# Altium integrated library TI Power Management Step-Up Regulator.IntLib: 226 symbols (part 8 of 11)
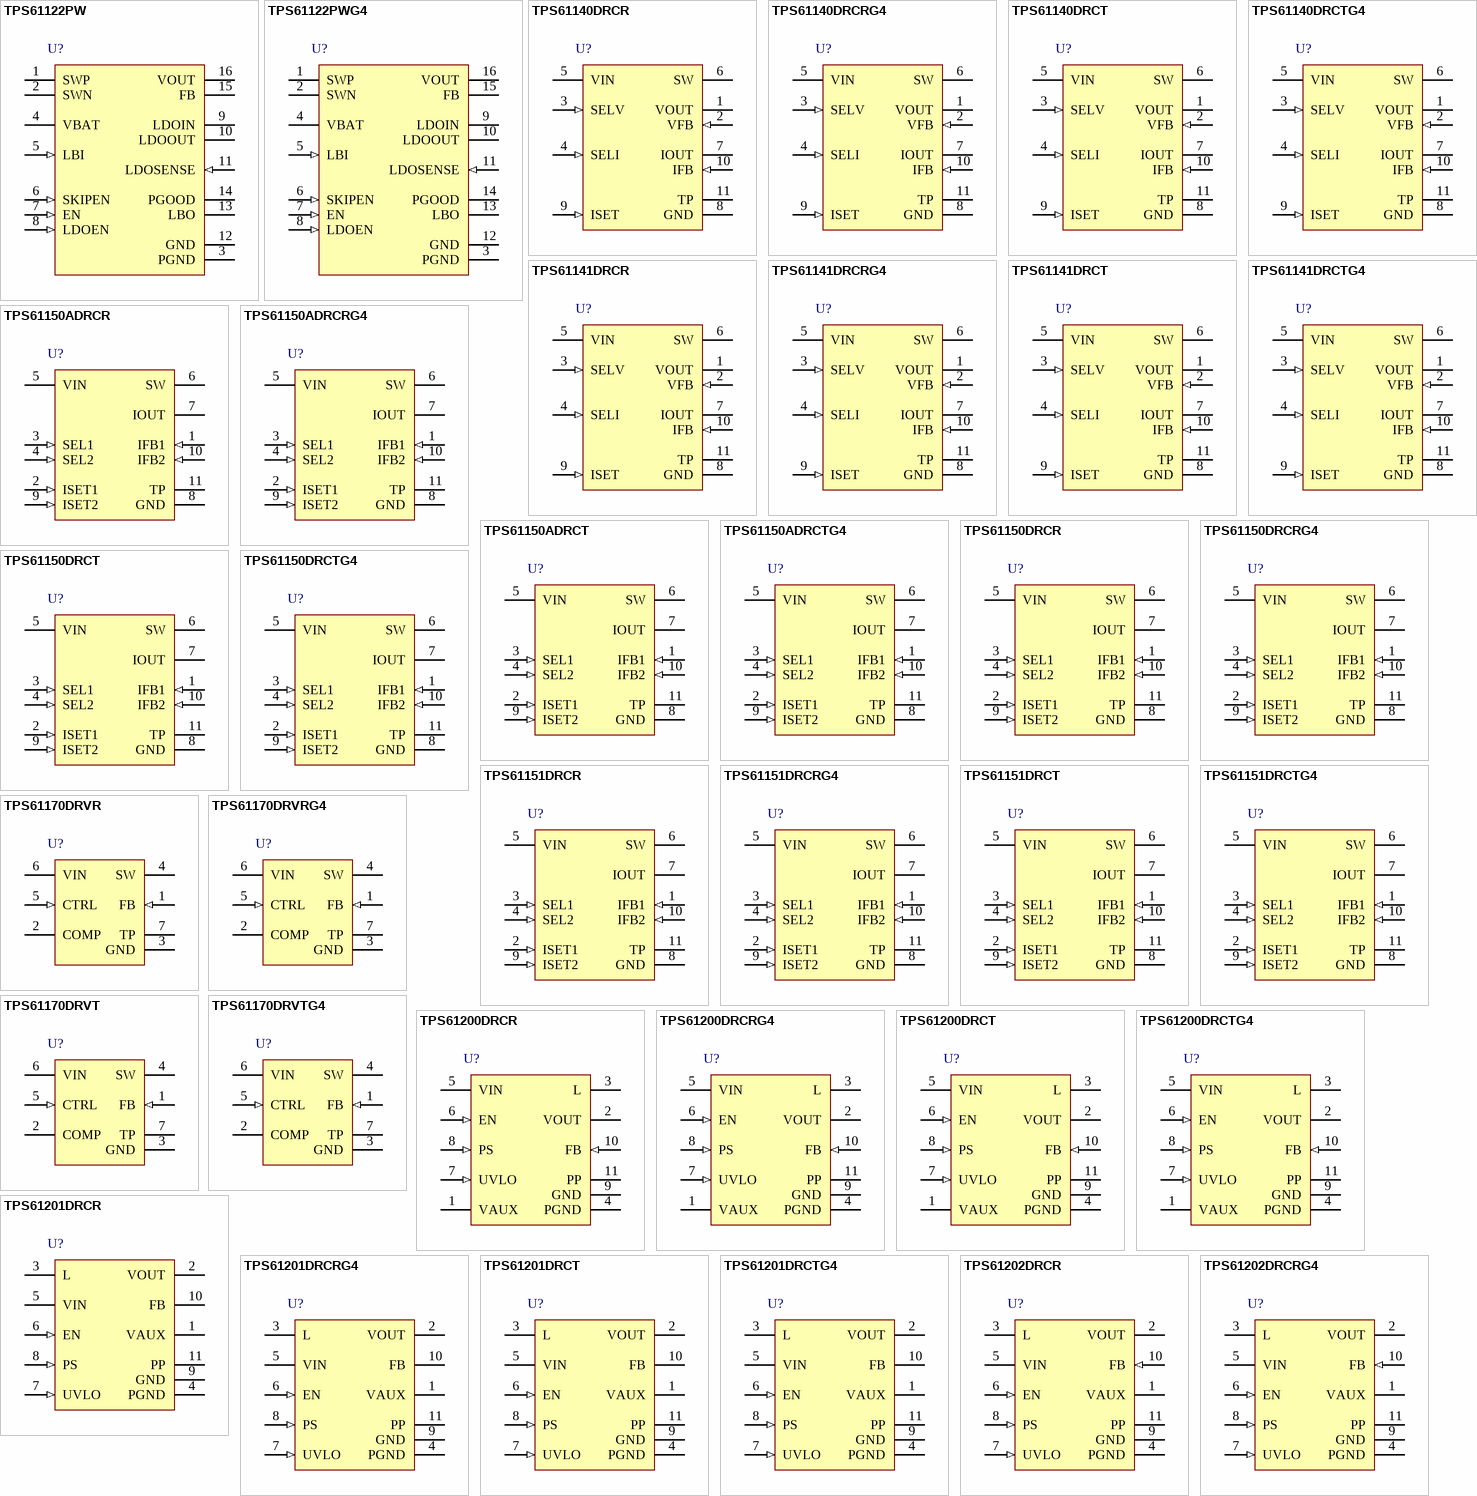
[diagram p13: symbols TPS61122PW to TPS61202DRCRG4]

## TPS61141DRCRG4
designator U?
Boost Voltage Converter with 3 to 6 V Input and 2.5 to 27 V Output, -40 to 85 degC, 10-Pin SON (DRC), Green (RoHS & no Sb/Br); Manufacturer: Texas Instruments; PartNumber: TPS61141DRCRG4; Regulated Outputs(#): 2; SubFamily: Step-Up Regulator; Switching Frequency(Max)(kHz): 1200; Synchronous Rectification: TRUE; Vin(Max)(V): 6; Vin(Min)(V): 3; Vout(Max)(V): 27; Vout(Min)(V): 2.5; DatasheetVersion: SLVS624B; PackageVersion: revL, Sep-2011; PackageReference: DRC10-2400X1650TP; PackageDescription: 10-Pin Plastic Small Outline No-Lead, 3 x 3 x 1 mm Body, 0.5 mm Pitch, Exposed Pad; Supplier 1: Digi-Key; Supplier Part Number 1: TPS61141DRCRG4-ND; Supplier 2: Newark; Supplier Part Number 2: 81K4157; Supplier 3: Mouser; Supplier Part Number 3: 595-TPS61141DRCRG4; Eco-Plan: Green (RoHS & no Sb/Br); Topology: Boost; Mounting Technology: Surface Mount; ComponentLink1Description: Datasheet; ComponentLink1URL: http://www.ti.com/general/docs/lit/getliterature.tsp?genericPartNumber=TPS61141&fileType=pdf; ComponentLink2Description: Package Specification; ComponentLink2URL: http://www.ti.com/litv/pdf/mpds117k
footprint DRC10-2400X1650TP (SON, 10-Leads, Body 3x3mm, Pitch 0.5mm, Thermal Pad 2.4x1.65mm, TI Recommended)
pins: 1 VOUT (power) "The output of the voltage regulator. There is a low dropout linear regulator (LDO) between the Iout and Vout pins which regulates the Vout voltage. Turning off the LDO disconnects the Vout from Iout.", 2 VFB (in) "The voltage feedback pin for Vout regulation. It is regulated to an internal reference voltage. An external voltage divider connected to this pin programs the output voltage.", 3 SELV (in) "Mode selection pins.", 4 SELI (in) "Mode selection pins.", 5 VIN (power) "The input pin to the IC. It provides the current to the boost regulator output, and also powers the IC circuit. When the Vin voltage is below the undervoltage lockout threshold, the IC turns off and disables outputs.", 6 SW (power) "This is the switching node of the IC where the PWM switching Is created.", 7 IOUT (power) "The output of the constant current supply. It is directly connected to the boost regulator output.", 8 GND (power) "The ground of the IC. Connect the input and output capacitors very close to this pin.", 9 ISET (in) "The current output programming pin. The resistor connected to the pin programs the regulated current of the Iout pin.", 10 IFB (in) "The return path for the Iout regulation. The current regulator is connected to this pin, and it can be disabled by opening the current path.", 11 TP (power) "The thermal pad should be soldered to the analog ground. If possible, use thermal via to connect to ground plane for ideal power dissipation."

## TPS61141DRCT
designator U?
Boost Voltage Converter with 3 to 6 V Input and 2.5 to 27 V Output, -40 to 85 degC, 10-Pin SON (DRC), Green (RoHS & no Sb/Br); Manufacturer: Texas Instruments; PartNumber: TPS61141DRCT; Regulated Outputs(#): 2; SubFamily: Step-Up Regulator; Switching Frequency(Max)(kHz): 1200; Synchronous Rectification: TRUE; Vin(Max)(V): 6; Vin(Min)(V): 3; Vout(Max)(V): 27; Vout(Min)(V): 2.5; DatasheetVersion: SLVS624B; PackageVersion: revL, Sep-2011; PackageReference: DRC10-2400X1650TP; PackageDescription: 10-Pin Plastic Small Outline No-Lead, 3 x 3 x 1 mm Body, 0.5 mm Pitch, Exposed Pad; Supplier 1: Digi-Key; Supplier Part Number 1: TPS61141DRCT-ND; Supplier 2: Newark; Supplier Part Number 2: 80K3414; Supplier 3: Mouser; Supplier Part Number 3: 595-TPS61141DRCT; Eco-Plan: Green (RoHS & no Sb/Br); Topology: Boost; Mounting Technology: Surface Mount; ComponentLink1Description: Datasheet; ComponentLink1URL: http://www.ti.com/general/docs/lit/getliterature.tsp?genericPartNumber=TPS61141&fileType=pdf; ComponentLink2Description: Package Specification; ComponentLink2URL: http://www.ti.com/litv/pdf/mpds117k
footprint DRC10-2400X1650TP (SON, 10-Leads, Body 3x3mm, Pitch 0.5mm, Thermal Pad 2.4x1.65mm, TI Recommended)
pins: 1 VOUT (power) "The output of the voltage regulator. There is a low dropout linear regulator (LDO) between the Iout and Vout pins which regulates the Vout voltage. Turning off the LDO disconnects the Vout from Iout.", 2 VFB (in) "The voltage feedback pin for Vout regulation. It is regulated to an internal reference voltage. An external voltage divider connected to this pin programs the output voltage.", 3 SELV (in) "Mode selection pins.", 4 SELI (in) "Mode selection pins.", 5 VIN (power) "The input pin to the IC. It provides the current to the boost regulator output, and also powers the IC circuit. When the Vin voltage is below the undervoltage lockout threshold, the IC turns off and disables outputs.", 6 SW (power) "This is the switching node of the IC where the PWM switching Is created.", 7 IOUT (power) "The output of the constant current supply. It is directly connected to the boost regulator output.", 8 GND (power) "The ground of the IC. Connect the input and output capacitors very close to this pin.", 9 ISET (in) "The current output programming pin. The resistor connected to the pin programs the regulated current of the Iout pin.", 10 IFB (in) "The return path for the Iout regulation. The current regulator is connected to this pin, and it can be disabled by opening the current path.", 11 TP (power) "The thermal pad should be soldered to the analog ground. If possible, use thermal via to connect to ground plane for ideal power dissipation."

## TPS61141DRCTG4
designator U?
Boost Voltage Converter with 3 to 6 V Input and 2.5 to 27 V Output, -40 to 85 degC, 10-Pin SON (DRC), Green (RoHS & no Sb/Br); Manufacturer: Texas Instruments; PartNumber: TPS61141DRCTG4; Regulated Outputs(#): 2; SubFamily: Step-Up Regulator; Switching Frequency(Max)(kHz): 1200; Synchronous Rectification: TRUE; Vin(Max)(V): 6; Vin(Min)(V): 3; Vout(Max)(V): 27; Vout(Min)(V): 2.5; DatasheetVersion: SLVS624B; PackageVersion: revL, Sep-2011; PackageReference: DRC10-2400X1650TP; PackageDescription: 10-Pin Plastic Small Outline No-Lead, 3 x 3 x 1 mm Body, 0.5 mm Pitch, Exposed Pad; Supplier 1: Digi-Key; Supplier Part Number 1: TPS61141DRCTG4-ND; Supplier 2: Newark; Supplier Part Number 2: 81K4158; Supplier 3: Mouser; Supplier Part Number 3: 595-TPS61141DRCTG4; Eco-Plan: Green (RoHS & no Sb/Br); Topology: Boost; Mounting Technology: Surface Mount; ComponentLink1Description: Datasheet; ComponentLink1URL: http://www.ti.com/general/docs/lit/getliterature.tsp?genericPartNumber=TPS61141&fileType=pdf; ComponentLink2Description: Package Specification; ComponentLink2URL: http://www.ti.com/litv/pdf/mpds117k
footprint DRC10-2400X1650TP (SON, 10-Leads, Body 3x3mm, Pitch 0.5mm, Thermal Pad 2.4x1.65mm, TI Recommended)
pins: 1 VOUT (power) "The output of the voltage regulator. There is a low dropout linear regulator (LDO) between the Iout and Vout pins which regulates the Vout voltage. Turning off the LDO disconnects the Vout from Iout.", 2 VFB (in) "The voltage feedback pin for Vout regulation. It is regulated to an internal reference voltage. An external voltage divider connected to this pin programs the output voltage.", 3 SELV (in) "Mode selection pins.", 4 SELI (in) "Mode selection pins.", 5 VIN (power) "The input pin to the IC. It provides the current to the boost regulator output, and also powers the IC circuit. When the Vin voltage is below the undervoltage lockout threshold, the IC turns off and disables outputs.", 6 SW (power) "This is the switching node of the IC where the PWM switching Is created.", 7 IOUT (power) "The output of the constant current supply. It is directly connected to the boost regulator output.", 8 GND (power) "The ground of the IC. Connect the input and output capacitors very close to this pin.", 9 ISET (in) "The current output programming pin. The resistor connected to the pin programs the regulated current of the Iout pin.", 10 IFB (in) "The return path for the Iout regulation. The current regulator is connected to this pin, and it can be disabled by opening the current path.", 11 TP (power) "The thermal pad should be soldered to the analog ground. If possible, use thermal via to connect to ground plane for ideal power dissipation."

## TPS61150ADRCR
designator U?
Boost Voltage Converter with 2.5 to 6 V Input and 2.5 to 27 V Output, -40 to 85 degC, 10-Pin SON (DRC), Green (RoHS & no Sb/Br); Manufacturer: Texas Instruments; PartNumber: TPS61150ADRCR; Regulated Outputs(#): 2; SubFamily: Step-Up Regulator; Switching Frequency(Max)(kHz): 1200; Synchronous Rectification: TRUE; Vin(Max)(V): 6; Vin(Min)(V): 2.5; Vout(Max)(V): 27; DatasheetVersion: SLVS706; PackageVersion: revL, Sep-2011; PackageReference: DRC10-2400X1650TP; PackageDescription: 10-Pin Plastic Small Outline No-Lead, 3 x 3 x 1 mm Body, 0.5 mm Pitch, Exposed Pad; Supplier 1: Digi-Key; Supplier Part Number 1: 296-21273-2-ND; Supplier 2: Digi-Key; Supplier Part Number 2: 296-21273-1-ND; Supplier 3: Digi-Key; Supplier Part Number 3: 296-21273-6-ND; Supplier 4: Newark; Supplier Part Number 4: 22M1821; Supplier 5: Mouser; Supplier Part Number 5: 595-TPS61150ADRCR; Eco-Plan: Green (RoHS & no Sb/Br); Topology: Boost; Vout(Min)(V): 2.5; Mounting Technology: Surface Mount; ComponentLink1Description: Datasheet; ComponentLink1URL: http://www.ti.com/general/docs/lit/getliterature.tsp?genericPartNumber=TPS61150A&fileType=pdf; ComponentLink2Description: Package Specification; ComponentLink2URL: http://www.ti.com/litv/pdf/mpds117k
footprint DRC10-2400X1650TP (SON, 10-Leads, Body 3x3mm, Pitch 0.5mm, Thermal Pad 2.4x1.65mm, TI Recommended)
pins: 1 IFB1 (in) "Return path for the IOUT regulation. The current regulator is connected to this pin, and it can be disabled to open the current path.", 2 ISET1 (in) "Output current programming. The resistor connected to the pin programs the corresponding output current", 3 SEL1 (in) "Mode selection. See Table 1 for details", 4 SEL2 (in) "Mode selection. See Table 1 for details", 5 VIN (power) "Input pin. VIN provides the current to the boost power stage, and also powers the IC circuit. When VIN is below the undervoltage lockout threshold, the IC turns off and disables outputs; thereby disconnecting the WLEDs from (See Datasheet)", 6 SW (power) "Switching node of the IC.", 7 IOUT (power) "Constant current supply output. IOUT is directly connected to the boost converter output.", 8 GND (power) "Ground. Connect the input and output capacitors as close as possible to this pin.", 9 ISET2 (in) "Output current programming. The resistor connected to the pin programs the corresponding output current", 10 IFB2 (in) "Return path for the IOUT regulation. The current regulator is connected to this pin, and it can be disabled to open the current path.", 11 TP (power) "The thermal pad should be soldered to the analog ground. If possible, use the thermal pad to connect to ground plane for ideal power dissipation."

## TPS61150ADRCRG4
designator U?
Boost Voltage Converter with 2.5 to 6 V Input and 2.5 to 27 V Output, -40 to 85 degC, 10-Pin SON (DRC), Green (RoHS & no Sb/Br); Manufacturer: Texas Instruments; PartNumber: TPS61150ADRCRG4; Regulated Outputs(#): 2; SubFamily: Step-Up Regulator; Switching Frequency(Max)(kHz): 1200; Synchronous Rectification: TRUE; Vin(Max)(V): 6; Vin(Min)(V): 2.5; Vout(Max)(V): 27; DatasheetVersion: SLVS706; PackageVersion: revL, Sep-2011; PackageReference: DRC10-2400X1650TP; PackageDescription: 10-Pin Plastic Small Outline No-Lead, 3 x 3 x 1 mm Body, 0.5 mm Pitch, Exposed Pad; Supplier 1: Digi-Key; Supplier Part Number 1: TPS61150ADRCRG4-ND; Supplier 2: Newark; Supplier Part Number 2: 20M7045; Supplier 3: Mouser; Supplier Part Number 3: 595-TPS61150ADRCRG4; Eco-Plan: Green (RoHS & no Sb/Br); Topology: Boost; Vout(Min)(V): 2.5; Mounting Technology: Surface Mount; ComponentLink1Description: Datasheet; ComponentLink1URL: http://www.ti.com/general/docs/lit/getliterature.tsp?genericPartNumber=TPS61150A&fileType=pdf; ComponentLink2Description: Package Specification; ComponentLink2URL: http://www.ti.com/litv/pdf/mpds117k
footprint DRC10-2400X1650TP (SON, 10-Leads, Body 3x3mm, Pitch 0.5mm, Thermal Pad 2.4x1.65mm, TI Recommended)
pins: 1 IFB1 (in) "Return path for the IOUT regulation. The current regulator is connected to this pin, and it can be disabled to open the current path.", 2 ISET1 (in) "Output current programming. The resistor connected to the pin programs the corresponding output current", 3 SEL1 (in) "Mode selection. See Table 1 for details", 4 SEL2 (in) "Mode selection. See Table 1 for details", 5 VIN (power) "Input pin. VIN provides the current to the boost power stage, and also powers the IC circuit. When VIN is below the undervoltage lockout threshold, the IC turns off and disables outputs; thereby disconnecting the WLEDs from (See Datasheet)", 6 SW (power) "Switching node of the IC.", 7 IOUT (power) "Constant current supply output. IOUT is directly connected to the boost converter output.", 8 GND (power) "Ground. Connect the input and output capacitors as close as possible to this pin.", 9 ISET2 (in) "Output current programming. The resistor connected to the pin programs the corresponding output current", 10 IFB2 (in) "Return path for the IOUT regulation. The current regulator is connected to this pin, and it can be disabled to open the current path.", 11 TP (power) "The thermal pad should be soldered to the analog ground. If possible, use the thermal pad to connect to ground plane for ideal power dissipation."

## TPS61150ADRCT
designator U?
Boost Voltage Converter with 2.5 to 6 V Input and 2.5 to 27 V Output, -40 to 85 degC, 10-Pin SON (DRC), Green (RoHS & no Sb/Br); Manufacturer: Texas Instruments; PartNumber: TPS61150ADRCT; Regulated Outputs(#): 2; SubFamily: Step-Up Regulator; Switching Frequency(Max)(kHz): 1200; Synchronous Rectification: TRUE; Vin(Max)(V): 6; Vin(Min)(V): 2.5; Vout(Max)(V): 27; DatasheetVersion: SLVS706; PackageVersion: revL, Sep-2011; PackageReference: DRC10-2400X1650TP; PackageDescription: 10-Pin Plastic Small Outline No-Lead, 3 x 3 x 1 mm Body, 0.5 mm Pitch, Exposed Pad; Supplier 1: Digi-Key; Supplier Part Number 1: TPS61150ADRCT-ND; Supplier 2: Farnell; Supplier Part Number 2: 1647812; Supplier 3: Newark; Supplier Part Number 3: 22M1822; Supplier 4: Mouser; Supplier Part Number 4: 595-TPS61150ADRCT; Eco-Plan: Green (RoHS & no Sb/Br); Topology: Boost; Vout(Min)(V): 2.5; Mounting Technology: Surface Mount; ComponentLink1Description: Datasheet; ComponentLink1URL: http://www.ti.com/general/docs/lit/getliterature.tsp?genericPartNumber=TPS61150A&fileType=pdf; ComponentLink2Description: Package Specification; ComponentLink2URL: http://www.ti.com/litv/pdf/mpds117k
footprint DRC10-2400X1650TP (SON, 10-Leads, Body 3x3mm, Pitch 0.5mm, Thermal Pad 2.4x1.65mm, TI Recommended)
pins: 1 IFB1 (in) "Return path for the IOUT regulation. The current regulator is connected to this pin, and it can be disabled to open the current path.", 2 ISET1 (in) "Output current programming. The resistor connected to the pin programs the corresponding output current", 3 SEL1 (in) "Mode selection. See Table 1 for details", 4 SEL2 (in) "Mode selection. See Table 1 for details", 5 VIN (power) "Input pin. VIN provides the current to the boost power stage, and also powers the IC circuit. When VIN is below the undervoltage lockout threshold, the IC turns off and disables outputs; thereby disconnecting the WLEDs from (See Datasheet)", 6 SW (power) "Switching node of the IC.", 7 IOUT (power) "Constant current supply output. IOUT is directly connected to the boost converter output.", 8 GND (power) "Ground. Connect the input and output capacitors as close as possible to this pin.", 9 ISET2 (in) "Output current programming. The resistor connected to the pin programs the corresponding output current", 10 IFB2 (in) "Return path for the IOUT regulation. The current regulator is connected to this pin, and it can be disabled to open the current path.", 11 TP (power) "The thermal pad should be soldered to the analog ground. If possible, use the thermal pad to connect to ground plane for ideal power dissipation."

## TPS61150ADRCTG4
designator U?
Boost Voltage Converter with 2.5 to 6 V Input and 2.5 to 27 V Output, -40 to 85 degC, 10-Pin SON (DRC), Green (RoHS & no Sb/Br); Manufacturer: Texas Instruments; PartNumber: TPS61150ADRCTG4; Regulated Outputs(#): 2; SubFamily: Step-Up Regulator; Switching Frequency(Max)(kHz): 1200; Synchronous Rectification: TRUE; Vin(Max)(V): 6; Vin(Min)(V): 2.5; Vout(Max)(V): 27; DatasheetVersion: SLVS706; PackageVersion: revL, Sep-2011; PackageReference: DRC10-2400X1650TP; PackageDescription: 10-Pin Plastic Small Outline No-Lead, 3 x 3 x 1 mm Body, 0.5 mm Pitch, Exposed Pad; Supplier 1: Digi-Key; Supplier Part Number 1: TPS61150ADRCTG4-ND; Supplier 2: Newark; Supplier Part Number 2: 20M7046; Supplier 3: Mouser; Supplier Part Number 3: 595-TPS61150ADRCTG4; Eco-Plan: Green (RoHS & no Sb/Br); Topology: Boost; Vout(Min)(V): 2.5; Mounting Technology: Surface Mount; ComponentLink1Description: Datasheet; ComponentLink1URL: http://www.ti.com/general/docs/lit/getliterature.tsp?genericPartNumber=TPS61150A&fileType=pdf; ComponentLink2Description: Package Specification; ComponentLink2URL: http://www.ti.com/litv/pdf/mpds117k
footprint DRC10-2400X1650TP (SON, 10-Leads, Body 3x3mm, Pitch 0.5mm, Thermal Pad 2.4x1.65mm, TI Recommended)
pins: 1 IFB1 (in) "Return path for the IOUT regulation. The current regulator is connected to this pin, and it can be disabled to open the current path.", 2 ISET1 (in) "Output current programming. The resistor connected to the pin programs the corresponding output current", 3 SEL1 (in) "Mode selection. See Table 1 for details", 4 SEL2 (in) "Mode selection. See Table 1 for details", 5 VIN (power) "Input pin. VIN provides the current to the boost power stage, and also powers the IC circuit. When VIN is below the undervoltage lockout threshold, the IC turns off and disables outputs; thereby disconnecting the WLEDs from (See Datasheet)", 6 SW (power) "Switching node of the IC.", 7 IOUT (power) "Constant current supply output. IOUT is directly connected to the boost converter output.", 8 GND (power) "Ground. Connect the input and output capacitors as close as possible to this pin.", 9 ISET2 (in) "Output current programming. The resistor connected to the pin programs the corresponding output current", 10 IFB2 (in) "Return path for the IOUT regulation. The current regulator is connected to this pin, and it can be disabled to open the current path.", 11 TP (power) "The thermal pad should be soldered to the analog ground. If possible, use the thermal pad to connect to ground plane for ideal power dissipation."

## TPS61150DRCR
designator U?
Boost Voltage Converter with 3 to 6 V Input and 2.5 to 27 V Output, -40 to 85 degC, 10-Pin SON (DRC), Green (RoHS & no Sb/Br); Manufacturer: Texas Instruments; PartNumber: TPS61150DRCR; Regulated Outputs(#): 2; SubFamily: Step-Up Regulator; Switching Frequency(Max)(kHz): 1200; Synchronous Rectification: TRUE; Vin(Max)(V): 6; Vin(Min)(V): 3; Vout(Max)(V): 27; Vout(Min)(V): 2.5; DatasheetVersion: SLVS625D; PackageVersion: revL, Sep-2011; PackageReference: DRC10-2400X1650TP; PackageDescription: 10-Pin Plastic Small Outline No-Lead, 3 x 3 x 1 mm Body, 0.5 mm Pitch, Exposed Pad; Supplier 1: Digi-Key; Supplier Part Number 1: 296-21161-2-ND; Supplier 2: Digi-Key; Supplier Part Number 2: 296-21161-1-ND; Supplier 3: Digi-Key; Supplier Part Number 3: 296-21161-6-ND; Supplier 4: Newark; Supplier Part Number 4: 80K6169; Supplier 5: Mouser; Supplier Part Number 5: 595-TPS61150DRCR; Eco-Plan: Green (RoHS & no Sb/Br); Topology: Boost; Mounting Technology: Surface Mount; ComponentLink1Description: Datasheet; ComponentLink1URL: http://www.ti.com/general/docs/lit/getliterature.tsp?genericPartNumber=TPS61150&fileType=pdf; ComponentLink2Description: Package Specification; ComponentLink2URL: http://www.ti.com/litv/pdf/mpds117k
footprint DRC10-2400X1650TP (SON, 10-Leads, Body 3x3mm, Pitch 0.5mm, Thermal Pad 2.4x1.65mm, TI Recommended)
pins: 1 IFB1 (in) "The return path for the Iout regulation. Current regulator is connected to this pin, and it can be disabled to open the current path.", 2 ISET1 (in) "Output current programming pin. The resistor connected to the pin programs its corresponding output current.", 3 SEL1 (in) "Mode selection pins. See Table 1 for details.", 4 SEL2 (in) "Mode selection pins. See Table 1 for details.", 5 VIN (power) "The input pin to the IC. It provides the current to the boost power stage, and also powers the IC circuit. When Vin is below the undervoltage lockout threshold, the IC turns off and disables outputs; thereby disconnecting (See Datasheet)", 6 SW (power) "This is the switching node of the IC.", 7 IOUT (power) "The output of the constant current supply. It is directly connected to the boost converter output.", 8 GND (power) "The ground of the IC. Connect the input and output capacitors very close to this pin.", 9 ISET2 (in) "Output current programming pin. The resistor connected to the pin programs its corresponding output current.", 10 IFB2 (in) "The return path for the Iout regulation. Current regulator is connected to this pin, and it can be disabled to open the current path.", 11 TP (power) "The thermal pad should be soldered to the analog ground. If possible, use thermal via to connect to ground plane for ideal power dissipation."

## TPS61150DRCRG4
designator U?
Boost Voltage Converter with 3 to 6 V Input and 2.5 to 27 V Output, -40 to 85 degC, 10-Pin SON (DRC), Green (RoHS & no Sb/Br); Manufacturer: Texas Instruments; PartNumber: TPS61150DRCRG4; Regulated Outputs(#): 2; SubFamily: Step-Up Regulator; Switching Frequency(Max)(kHz): 1200; Synchronous Rectification: TRUE; Vin(Max)(V): 6; Vin(Min)(V): 3; Vout(Max)(V): 27; Vout(Min)(V): 2.5; DatasheetVersion: SLVS625D; PackageVersion: revL, Sep-2011; PackageReference: DRC10-2400X1650TP; PackageDescription: 10-Pin Plastic Small Outline No-Lead, 3 x 3 x 1 mm Body, 0.5 mm Pitch, Exposed Pad; Supplier 1: Digi-Key; Supplier Part Number 1: TPS61150DRCRG4-ND; Supplier 2: Newark; Supplier Part Number 2: 81K4159; Supplier 3: Mouser; Supplier Part Number 3: 595-TPS61150DRCRG4; Eco-Plan: Green (RoHS & no Sb/Br); Topology: Boost; Mounting Technology: Surface Mount; ComponentLink1Description: Datasheet; ComponentLink1URL: http://www.ti.com/general/docs/lit/getliterature.tsp?genericPartNumber=TPS61150&fileType=pdf; ComponentLink2Description: Package Specification; ComponentLink2URL: http://www.ti.com/litv/pdf/mpds117k
footprint DRC10-2400X1650TP (SON, 10-Leads, Body 3x3mm, Pitch 0.5mm, Thermal Pad 2.4x1.65mm, TI Recommended)
pins: 1 IFB1 (in) "The return path for the Iout regulation. Current regulator is connected to this pin, and it can be disabled to open the current path.", 2 ISET1 (in) "Output current programming pin. The resistor connected to the pin programs its corresponding output current.", 3 SEL1 (in) "Mode selection pins. See Table 1 for details.", 4 SEL2 (in) "Mode selection pins. See Table 1 for details.", 5 VIN (power) "The input pin to the IC. It provides the current to the boost power stage, and also powers the IC circuit. When Vin is below the undervoltage lockout threshold, the IC turns off and disables outputs; thereby disconnecting (See Datasheet)", 6 SW (power) "This is the switching node of the IC.", 7 IOUT (power) "The output of the constant current supply. It is directly connected to the boost converter output.", 8 GND (power) "The ground of the IC. Connect the input and output capacitors very close to this pin.", 9 ISET2 (in) "Output current programming pin. The resistor connected to the pin programs its corresponding output current.", 10 IFB2 (in) "The return path for the Iout regulation. Current regulator is connected to this pin, and it can be disabled to open the current path.", 11 TP (power) "The thermal pad should be soldered to the analog ground. If possible, use thermal via to connect to ground plane for ideal power dissipation."

## TPS61150DRCT
designator U?
Boost Voltage Converter with 3 to 6 V Input and 2.5 to 27 V Output, 10-Pin SON (DRC), Green (RoHS & no Sb/Br); Manufacturer: Texas Instruments; PartNumber: TPS61150DRCT; Regulated Outputs(#): 2; SubFamily: Step-Up Regulator; Switching Frequency(Max)(kHz): 1200; Synchronous Rectification: TRUE; Vin(Max)(V): 6; Vin(Min)(V): 3; Vout(Max)(V): 27; Vout(Min)(V): 2.5; DatasheetVersion: SLVS625D; PackageVersion: revL, Sep-2011; PackageReference: DRC10-2400X1650TP; PackageDescription: 10-Pin Plastic Small Outline No-Lead, 3 x 3 x 1 mm Body, 0.5 mm Pitch, Exposed Pad; Supplier 1: Digi-Key; Supplier Part Number 1: TPS61150DRCT-ND; Supplier 2: Newark; Supplier Part Number 2: 80K6170; Supplier 3: Newark; Supplier Part Number 3: 99R8636; Supplier 4: Mouser; Supplier Part Number 4: 595-TPS61150DRCT; Eco-Plan: Green (RoHS & no Sb/Br); Topology: Boost; Mounting Technology: Surface Mount; ComponentLink1Description: Datasheet; ComponentLink1URL: http://www.ti.com/general/docs/lit/getliterature.tsp?genericPartNumber=TPS61150&fileType=pdf; ComponentLink2Description: Package Specification; ComponentLink2URL: http://www.ti.com/litv/pdf/mpds117k
footprint DRC10-2400X1650TP (SON, 10-Leads, Body 3x3mm, Pitch 0.5mm, Thermal Pad 2.4x1.65mm, TI Recommended)
pins: 1 IFB1 (in) "The return path for the Iout regulation. Current regulator is connected to this pin, and it can be disabled to open the current path.", 2 ISET1 (in) "Output current programming pin. The resistor connected to the pin programs its corresponding output current.", 3 SEL1 (in) "Mode selection pins. See Table 1 for details.", 4 SEL2 (in) "Mode selection pins. See Table 1 for details.", 5 VIN (power) "The input pin to the IC. It provides the current to the boost power stage, and also powers the IC circuit. When Vin is below the undervoltage lockout threshold, the IC turns off and disables outputs; thereby disconnecting (See Datasheet)", 6 SW (power) "This is the switching node of the IC.", 7 IOUT (power) "The output of the constant current supply. It is directly connected to the boost converter output.", 8 GND (power) "The ground of the IC. Connect the input and output capacitors very close to this pin.", 9 ISET2 (in) "Output current programming pin. The resistor connected to the pin programs its corresponding output current.", 10 IFB2 (in) "The return path for the Iout regulation. Current regulator is connected to this pin, and it can be disabled to open the current path.", 11 TP (power) "The thermal pad should be soldered to the analog ground. If possible, use thermal via to connect to ground plane for ideal power dissipation."

## TPS61150DRCTG4
designator U?
Boost Voltage Converter with 3 to 6 V Input and 2.5 to 27 V Output, 10-Pin SON (DRC), Green (RoHS & no Sb/Br); Manufacturer: Texas Instruments; PartNumber: TPS61150DRCTG4; Regulated Outputs(#): 2; SubFamily: Step-Up Regulator; Switching Frequency(Max)(kHz): 1200; Synchronous Rectification: TRUE; Vin(Max)(V): 6; Vin(Min)(V): 3; Vout(Max)(V): 27; Vout(Min)(V): 2.5; DatasheetVersion: SLVS625D; PackageVersion: revL, Sep-2011; PackageReference: DRC10-2400X1650TP; PackageDescription: 10-Pin Plastic Small Outline No-Lead, 3 x 3 x 1 mm Body, 0.5 mm Pitch, Exposed Pad; Supplier 1: Digi-Key; Supplier Part Number 1: TPS61150DRCTG4-ND; Supplier 2: Newark; Supplier Part Number 2: 81K4160; Supplier 3: Mouser; Supplier Part Number 3: 595-TPS61150DRCTG4; Eco-Plan: Green (RoHS & no Sb/Br); Topology: Boost; Mounting Technology: Surface Mount; ComponentLink1Description: Datasheet; ComponentLink1URL: http://www.ti.com/general/docs/lit/getliterature.tsp?genericPartNumber=TPS61150&fileType=pdf; ComponentLink2Description: Package Specification; ComponentLink2URL: http://www.ti.com/litv/pdf/mpds117k
footprint DRC10-2400X1650TP (SON, 10-Leads, Body 3x3mm, Pitch 0.5mm, Thermal Pad 2.4x1.65mm, TI Recommended)
pins: 1 IFB1 (in) "The return path for the Iout regulation. Current regulator is connected to this pin, and it can be disabled to open the current path.", 2 ISET1 (in) "Output current programming pin. The resistor connected to the pin programs its corresponding output current.", 3 SEL1 (in) "Mode selection pins. See Table 1 for details.", 4 SEL2 (in) "Mode selection pins. See Table 1 for details.", 5 VIN (power) "The input pin to the IC. It provides the current to the boost power stage, and also powers the IC circuit. When Vin is below the undervoltage lockout threshold, the IC turns off and disables outputs; thereby disconnecting (See Datasheet)", 6 SW (power) "This is the switching node of the IC.", 7 IOUT (power) "The output of the constant current supply. It is directly connected to the boost converter output.", 8 GND (power) "The ground of the IC. Connect the input and output capacitors very close to this pin.", 9 ISET2 (in) "Output current programming pin. The resistor connected to the pin programs its corresponding output current.", 10 IFB2 (in) "The return path for the Iout regulation. Current regulator is connected to this pin, and it can be disabled to open the current path.", 11 TP (power) "The thermal pad should be soldered to the analog ground. If possible, use thermal via to connect to ground plane for ideal power dissipation."

## TPS61151DRCR
designator U?
Boost Voltage Converter with 3 to 6 V Input and 2.5 to 27 V Output, -40 to 85 degC, 10-Pin SON (DRC), Green (RoHS & no Sb/Br); Manufacturer: Texas Instruments; PartNumber: TPS61151DRCR; Regulated Outputs(#): 2; SubFamily: Step-Up Regulator; Switching Frequency(Max)(kHz): 1200; Synchronous Rectification: TRUE; Vin(Max)(V): 6; Vin(Min)(V): 3; Vout(Max)(V): 27; Vout(Min)(V): 2.5; DatasheetVersion: SLVS625D; PackageVersion: revL, Sep-2011; PackageReference: DRC10-2400X1650TP; PackageDescription: 10-Pin Plastic Small Outline No-Lead, 3 x 3 x 1 mm Body, 0.5 mm Pitch, Exposed Pad; Supplier 1: Digi-Key; Supplier Part Number 1: 296-21162-2-ND; Supplier 2: Digi-Key; Supplier Part Number 2: 296-21162-1-ND; Supplier 3: Digi-Key; Supplier Part Number 3: 296-21162-6-ND; Supplier 4: Newark; Supplier Part Number 4: 80K3415; Supplier 5: Mouser; Supplier Part Number 5: 595-TPS61151DRCR; Eco-Plan: Green (RoHS & no Sb/Br); Topology: Boost; Mounting Technology: Surface Mount; ComponentLink1Description: Datasheet; ComponentLink1URL: http://www.ti.com/general/docs/lit/getliterature.tsp?genericPartNumber=TPS61151&fileType=pdf; ComponentLink2Description: Package Specification; ComponentLink2URL: http://www.ti.com/litv/pdf/mpds117k
footprint DRC10-2400X1650TP (SON, 10-Leads, Body 3x3mm, Pitch 0.5mm, Thermal Pad 2.4x1.65mm, TI Recommended)
pins: 1 IFB1 (in) "The return path for the Iout regulation. Current regulator is connected to this pin, and it can be disabled to open the current path.", 2 ISET1 (in) "Output current programming pin. The resistor connected to the pin programs its corresponding output current.", 3 SEL1 (in) "Mode selection pins. See Table 1 for details.", 4 SEL2 (in) "Mode selection pins. See Table 1 for details.", 5 VIN (power) "The input pin to the IC. It provides the current to the boost power stage, and also powers the IC circuit. When Vin is below the undervoltage lockout threshold, the IC turns off and disables outputs; thereby disconnecting (See Datasheet)", 6 SW (power) "This is the switching node of the IC.", 7 IOUT (power) "The output of the constant current supply. It is directly connected to the boost converter output.", 8 GND (power) "The ground of the IC. Connect the input and output capacitors very close to this pin.", 9 ISET2 (in) "Output current programming pin. The resistor connected to the pin programs its corresponding output current.", 10 IFB2 (in) "The return path for the Iout regulation. Current regulator is connected to this pin, and it can be disabled to open the current path.", 11 TP (power) "The thermal pad should be soldered to the analog ground. If possible, use thermal via to connect to ground plane for ideal power dissipation."

## TPS61151DRCRG4
designator U?
Boost Voltage Converter with 3 to 6 V Input and 2.5 to 27 V Output, -40 to 85 degC, 10-Pin SON (DRC), Green (RoHS & no Sb/Br); Manufacturer: Texas Instruments; PartNumber: TPS61151DRCRG4; Regulated Outputs(#): 2; SubFamily: Step-Up Regulator; Switching Frequency(Max)(kHz): 1200; Synchronous Rectification: TRUE; Vin(Max)(V): 6; Vin(Min)(V): 3; Vout(Max)(V): 27; Vout(Min)(V): 2.5; DatasheetVersion: SLVS625D; PackageVersion: revL, Sep-2011; PackageReference: DRC10-2400X1650TP; PackageDescription: 10-Pin Plastic Small Outline No-Lead, 3 x 3 x 1 mm Body, 0.5 mm Pitch, Exposed Pad; Supplier 1: Digi-Key; Supplier Part Number 1: TPS61151DRCRG4-ND; Supplier 2: Newark; Supplier Part Number 2: 81K4161; Supplier 3: Mouser; Supplier Part Number 3: 595-TPS61151DRCRG4; Eco-Plan: Green (RoHS & no Sb/Br); Topology: Boost; Mounting Technology: Surface Mount; ComponentLink1Description: Datasheet; ComponentLink1URL: http://www.ti.com/general/docs/lit/getliterature.tsp?genericPartNumber=TPS61151&fileType=pdf; ComponentLink2Description: Package Specification; ComponentLink2URL: http://www.ti.com/litv/pdf/mpds117k
footprint DRC10-2400X1650TP (SON, 10-Leads, Body 3x3mm, Pitch 0.5mm, Thermal Pad 2.4x1.65mm, TI Recommended)
pins: 1 IFB1 (in) "The return path for the Iout regulation. Current regulator is connected to this pin, and it can be disabled to open the current path.", 2 ISET1 (in) "Output current programming pin. The resistor connected to the pin programs its corresponding output current.", 3 SEL1 (in) "Mode selection pins. See Table 1 for details.", 4 SEL2 (in) "Mode selection pins. See Table 1 for details.", 5 VIN (power) "The input pin to the IC. It provides the current to the boost power stage, and also powers the IC circuit. When Vin is below the undervoltage lockout threshold, the IC turns off and disables outputs; thereby disconnecting (See Datasheet)", 6 SW (power) "This is the switching node of the IC.", 7 IOUT (power) "The output of the constant current supply. It is directly connected to the boost converter output.", 8 GND (power) "The ground of the IC. Connect the input and output capacitors very close to this pin.", 9 ISET2 (in) "Output current programming pin. The resistor connected to the pin programs its corresponding output current.", 10 IFB2 (in) "The return path for the Iout regulation. Current regulator is connected to this pin, and it can be disabled to open the current path.", 11 TP (power) "The thermal pad should be soldered to the analog ground. If possible, use thermal via to connect to ground plane for ideal power dissipation."

## TPS61151DRCT
designator U?
Boost Voltage Converter with 3 to 6 V Input and 2.5 to 27 V Output, -40 to 85 degC, 10-Pin SON (DRC), Green (RoHS & no Sb/Br); Manufacturer: Texas Instruments; PartNumber: TPS61151DRCT; Regulated Outputs(#): 2; SubFamily: Step-Up Regulator; Switching Frequency(Max)(kHz): 1200; Synchronous Rectification: TRUE; Vin(Max)(V): 6; Vin(Min)(V): 3; Vout(Max)(V): 27; Vout(Min)(V): 2.5; DatasheetVersion: SLVS625D; PackageVersion: revL, Sep-2011; PackageReference: DRC10-2400X1650TP; PackageDescription: 10-Pin Plastic Small Outline No-Lead, 3 x 3 x 1 mm Body, 0.5 mm Pitch, Exposed Pad; Supplier 1: Digi-Key; Supplier Part Number 1: TPS61151DRCT-ND; Supplier 2: Newark; Supplier Part Number 2: 80K3416; Supplier 3: Mouser; Supplier Part Number 3: 595-TPS61151DRCT; Eco-Plan: Green (RoHS & no Sb/Br); Topology: Boost; Mounting Technology: Surface Mount; ComponentLink1Description: Datasheet; ComponentLink1URL: http://www.ti.com/general/docs/lit/getliterature.tsp?genericPartNumber=TPS61151&fileType=pdf; ComponentLink2Description: Package Specification; ComponentLink2URL: http://www.ti.com/litv/pdf/mpds117k
footprint DRC10-2400X1650TP (SON, 10-Leads, Body 3x3mm, Pitch 0.5mm, Thermal Pad 2.4x1.65mm, TI Recommended)
pins: 1 IFB1 (in) "The return path for the Iout regulation. Current regulator is connected to this pin, and it can be disabled to open the current path.", 2 ISET1 (in) "Output current programming pin. The resistor connected to the pin programs its corresponding output current.", 3 SEL1 (in) "Mode selection pins. See Table 1 for details.", 4 SEL2 (in) "Mode selection pins. See Table 1 for details.", 5 VIN (power) "The input pin to the IC. It provides the current to the boost power stage, and also powers the IC circuit. When Vin is below the undervoltage lockout threshold, the IC turns off and disables outputs; thereby disconnecting (See Datasheet)", 6 SW (power) "This is the switching node of the IC.", 7 IOUT (power) "The output of the constant current supply. It is directly connected to the boost converter output.", 8 GND (power) "The ground of the IC. Connect the input and output capacitors very close to this pin.", 9 ISET2 (in) "Output current programming pin. The resistor connected to the pin programs its corresponding output current.", 10 IFB2 (in) "The return path for the Iout regulation. Current regulator is connected to this pin, and it can be disabled to open the current path.", 11 TP (power) "The thermal pad should be soldered to the analog ground. If possible, use thermal via to connect to ground plane for ideal power dissipation."

## TPS61151DRCTG4
designator U?
Boost Voltage Converter with 3 to 6 V Input and 2.5 to 27 V Output, -40 to 85 degC, 10-Pin SON (DRC), Green (RoHS & no Sb/Br); Manufacturer: Texas Instruments; PartNumber: TPS61151DRCTG4; Regulated Outputs(#): 2; SubFamily: Step-Up Regulator; Switching Frequency(Max)(kHz): 1200; Synchronous Rectification: TRUE; Vin(Max)(V): 6; Vin(Min)(V): 3; Vout(Max)(V): 27; Vout(Min)(V): 2.5; DatasheetVersion: SLVS625D; PackageVersion: revL, Sep-2011; PackageReference: DRC10-2400X1650TP; PackageDescription: 10-Pin Plastic Small Outline No-Lead, 3 x 3 x 1 mm Body, 0.5 mm Pitch, Exposed Pad; Supplier 1: Digi-Key; Supplier Part Number 1: TPS61151DRCTG4-ND; Supplier 2: Newark; Supplier Part Number 2: 81K4162; Supplier 3: Mouser; Supplier Part Number 3: 595-TPS61151DRCTG4; Eco-Plan: Green (RoHS & no Sb/Br); Topology: Boost; Mounting Technology: Surface Mount; ComponentLink1Description: Datasheet; ComponentLink1URL: http://www.ti.com/general/docs/lit/getliterature.tsp?genericPartNumber=TPS61151&fileType=pdf; ComponentLink2Description: Package Specification; ComponentLink2URL: http://www.ti.com/litv/pdf/mpds117k
footprint DRC10-2400X1650TP (SON, 10-Leads, Body 3x3mm, Pitch 0.5mm, Thermal Pad 2.4x1.65mm, TI Recommended)
pins: 1 IFB1 (in) "The return path for the Iout regulation. Current regulator is connected to this pin, and it can be disabled to open the current path.", 2 ISET1 (in) "Output current programming pin. The resistor connected to the pin programs its corresponding output current.", 3 SEL1 (in) "Mode selection pins. See Table 1 for details.", 4 SEL2 (in) "Mode selection pins. See Table 1 for details.", 5 VIN (power) "The input pin to the IC. It provides the current to the boost power stage, and also powers the IC circuit. When Vin is below the undervoltage lockout threshold, the IC turns off and disables outputs; thereby disconnecting (See Datasheet)", 6 SW (power) "This is the switching node of the IC.", 7 IOUT (power) "The output of the constant current supply. It is directly connected to the boost converter output.", 8 GND (power) "The ground of the IC. Connect the input and output capacitors very close to this pin.", 9 ISET2 (in) "Output current programming pin. The resistor connected to the pin programs its corresponding output current.", 10 IFB2 (in) "The return path for the Iout regulation. Current regulator is connected to this pin, and it can be disabled to open the current path.", 11 TP (power) "The thermal pad should be soldered to the analog ground. If possible, use thermal via to connect to ground plane for ideal power dissipation."

## TPS61170DRVR
designator U?
Boost Voltage Converter with 3 to 18 V Input and 3 to 38 V Output, -40 to 85 degC, 6-Pin SON (DRC), Green (RoHS & no Sb/Br); Manufacturer: Texas Instruments; PartNumber: TPS61170DRVR; Dynamic Voltage Scaling: TRUE; Regulated Outputs(#): 1; SubFamily: Step-Up Regulator; Switching Frequency(Max)(kHz): 1200; Vin(Max)(V): 18; Vin(Min)(V): 3; Vout(Max)(V): 38; DatasheetVersion: SLVS789C; PackageVersion: revE, Oct-2010; PackageReference: DRV6-1600X1000TP; PackageDescription: 6-Pin Plastic Small Outline No-Lead, 2 x 2 x 0.8 mm Body, 0.65 mm Pitch, Exposed Pad; Supplier 1: Digi-Key; Supplier Part Number 1: 296-22945-2-ND; Supplier 2: Digi-Key; Supplier Part Number 2: 296-22945-1-ND; Supplier 3: Digi-Key; Supplier Part Number 3: 296-22945-6-ND; Supplier 4: Newark; Supplier Part Number 4: 65M6341; Supplier 5: Mouser; Supplier Part Number 5: 595-TPS61170DRVR; Eco-Plan: Green (RoHS & no Sb/Br); Topology: Boost; Vout(Min)(V): 3; Mounting Technology: Surface Mount; ComponentLink1Description: Datasheet; ComponentLink1URL: http://www.ti.com/general/docs/lit/getliterature.tsp?genericPartNumber=TPS61170&fileType=pdf; ComponentLink2Description: Package Specification; ComponentLink2URL: http://www.ti.com/litv/pdf/mpds216d
footprint DRV6-1600X1000TP (SON, 6-Leads, Body 2x2mm, Pitch 0.65mm, Thermal Pad 1.6x1mm, TI Recommended)
pins: 1 FB (in) "Feedback pin for current. Connect to the center tap of a resistor divider to program the output voltage.", 2 COMP "Output of the transconductance error amplifier. Connect an external RC network to this pin to compensate the regulator.", 3 GND (power) "Ground", 4 SW (power) "This is the switching node of the IC. Connect SW to the switched side of the inductor", 5 CTRL (in) "Control pin of the boost regulator. CTRL is a multi-functional pin which can be used to enable the device and control the feedback voltage with a PWM signal or for digital communications.", 6 VIN (power) "The input supply pin for the IC. Connect VIN to a supply voltage between 3 V and 18 V.", 7 TP (power) "The thermal pad should be soldered to the analog ground plane to avoid thermal issue. If possible, use thermal vias to connect to ground plane for ideal power dissipation."

## TPS61170DRVRG4
designator U?
Boost Voltage Converter with 3 to 18 V Input and 3 to 38 V Output, -40 to 85 degC, 6-Pin SON (DRV), Green (RoHS & no Sb/Br); Manufacturer: Texas Instruments; PartNumber: TPS61170DRVRG4; Dynamic Voltage Scaling: TRUE; Regulated Outputs(#): 1; SubFamily: Step-Up Regulator; Switching Frequency(Max)(kHz): 1200; Vin(Max)(V): 18; Vin(Min)(V): 3; Vout(Max)(V): 38; DatasheetVersion: SLVS789C; PackageVersion: revE, Oct-2010; PackageReference: DRV6-1600X1000TP; PackageDescription: 6-Pin Plastic Small Outline No-Lead, 2 x 2 x 0.8 mm Body, 0.65 mm Pitch, Exposed Pad; Supplier 1: Digi-Key; Supplier Part Number 1: TPS61170DRVRG4-ND; Supplier 2: Newark; Supplier Part Number 2: 95M0073; Supplier 3: Mouser; Supplier Part Number 3: 595-TPS61170DRVRG4; Eco-Plan: Green (RoHS & no Sb/Br); Topology: Boost; Vout(Min)(V): 3; Mounting Technology: Surface Mount; ComponentLink1Description: Datasheet; ComponentLink1URL: http://www.ti.com/general/docs/lit/getliterature.tsp?genericPartNumber=TPS61170&fileType=pdf; ComponentLink2Description: Package Specification; ComponentLink2URL: http://www.ti.com/litv/pdf/mpds216d
footprint DRV6-1600X1000TP (SON, 6-Leads, Body 2x2mm, Pitch 0.65mm, Thermal Pad 1.6x1mm, TI Recommended)
pins: 1 FB (in) "Feedback pin for current. Connect to the center tap of a resistor divider to program the output voltage.", 2 COMP "Output of the transconductance error amplifier. Connect an external RC network to this pin to compensate the regulator.", 3 GND (power) "Ground", 4 SW (power) "This is the switching node of the IC. Connect SW to the switched side of the inductor", 5 CTRL (in) "Control pin of the boost regulator. CTRL is a multi-functional pin which can be used to enable the device and control the feedback voltage with a PWM signal or for digital communications.", 6 VIN (power) "The input supply pin for the IC. Connect VIN to a supply voltage between 3 V and 18 V.", 7 TP (power) "The thermal pad should be soldered to the analog ground plane to avoid thermal issue. If possible, use thermal vias to connect to ground plane for ideal power dissipation."

## TPS61170DRVT
designator U?
Boost Voltage Converter with 3 to 18 V Input and 3 to 38 V Output, -40 to 85 degC, 6-Pin SON (DRV), Green (RoHS & no Sb/Br); Manufacturer: Texas Instruments; PartNumber: TPS61170DRVT; Dynamic Voltage Scaling: TRUE; Regulated Outputs(#): 1; SubFamily: Step-Up Regulator; Switching Frequency(Max)(kHz): 1200; Vin(Max)(V): 18; Vin(Min)(V): 3; Vout(Max)(V): 38; DatasheetVersion: SLVS789C; PackageVersion: revE, Oct-2010; PackageReference: DRV6-1600X1000TP; PackageDescription: 6-Pin Plastic Small Outline No-Lead, 2 x 2 x 0.8 mm Body, 0.65 mm Pitch, Exposed Pad; Supplier 1: Digi-Key; Supplier Part Number 1: 296-32502-2-ND; Supplier 2: Digi-Key; Supplier Part Number 2: 296-32502-1-ND; Supplier 3: Digi-Key; Supplier Part Number 3: 296-32502-6-ND; Supplier 4: Farnell; Supplier Part Number 4: 1703404; Supplier 5: Newark; Supplier Part Number 5: 65M6342; Supplier 6: Mouser; Supplier Part Number 6: 595-TPS61170DRVT; Eco-Plan: Green (RoHS & no Sb/Br); Topology: Boost; Vout(Min)(V): 3; Mounting Technology: Surface Mount; ComponentLink1Description: Datasheet; ComponentLink1URL: http://www.ti.com/general/docs/lit/getliterature.tsp?genericPartNumber=TPS61170&fileType=pdf; ComponentLink2Description: Package Specification; ComponentLink2URL: http://www.ti.com/litv/pdf/mpds216d
footprint DRV6-1600X1000TP (SON, 6-Leads, Body 2x2mm, Pitch 0.65mm, Thermal Pad 1.6x1mm, TI Recommended)
pins: 1 FB (in) "Feedback pin for current. Connect to the center tap of a resistor divider to program the output voltage.", 2 COMP "Output of the transconductance error amplifier. Connect an external RC network to this pin to compensate the regulator.", 3 GND (power) "Ground", 4 SW (power) "This is the switching node of the IC. Connect SW to the switched side of the inductor", 5 CTRL (in) "Control pin of the boost regulator. CTRL is a multi-functional pin which can be used to enable the device and control the feedback voltage with a PWM signal or for digital communications.", 6 VIN (power) "The input supply pin for the IC. Connect VIN to a supply voltage between 3 V and 18 V.", 7 TP (power) "The thermal pad should be soldered to the analog ground plane to avoid thermal issue. If possible, use thermal vias to connect to ground plane for ideal power dissipation."

## TPS61170DRVTG4
designator U?
Boost Voltage Converter with 3 to 18 V Input and 3 to 38 V Output, -40 to 85 degC, 6-Pin SON (DRV), Green (RoHS & no Sb/Br); Manufacturer: Texas Instruments; PartNumber: TPS61170DRVTG4; Dynamic Voltage Scaling: TRUE; Regulated Outputs(#): 1; SubFamily: Step-Up Regulator; Switching Frequency(Max)(kHz): 1200; Vin(Max)(V): 18; Vin(Min)(V): 3; Vout(Max)(V): 38; DatasheetVersion: SLVS789C; PackageVersion: revE, Oct-2010; PackageReference: DRV6-1600X1000TP; PackageDescription: 6-Pin Plastic Small Outline No-Lead, 2 x 2 x 0.8 mm Body, 0.65 mm Pitch, Exposed Pad; Supplier 1: Digi-Key; Supplier Part Number 1: TPS61170DRVTG4-ND; Supplier 2: Newark; Supplier Part Number 2: 95M0074; Supplier 3: Mouser; Supplier Part Number 3: 595-TPS61170DRVTG4; Eco-Plan: Green (RoHS & no Sb/Br); Topology: Boost; Vout(Min)(V): 3; Mounting Technology: Surface Mount; ComponentLink1Description: Datasheet; ComponentLink1URL: http://www.ti.com/general/docs/lit/getliterature.tsp?genericPartNumber=TPS61170&fileType=pdf; ComponentLink2Description: Package Specification; ComponentLink2URL: http://www.ti.com/litv/pdf/mpds216d
footprint DRV6-1600X1000TP (SON, 6-Leads, Body 2x2mm, Pitch 0.65mm, Thermal Pad 1.6x1mm, TI Recommended)
pins: 1 FB (in) "Feedback pin for current. Connect to the center tap of a resistor divider to program the output voltage.", 2 COMP "Output of the transconductance error amplifier. Connect an external RC network to this pin to compensate the regulator.", 3 GND (power) "Ground", 4 SW (power) "This is the switching node of the IC. Connect SW to the switched side of the inductor", 5 CTRL (in) "Control pin of the boost regulator. CTRL is a multi-functional pin which can be used to enable the device and control the feedback voltage with a PWM signal or for digital communications.", 6 VIN (power) "The input supply pin for the IC. Connect VIN to a supply voltage between 3 V and 18 V.", 7 TP (power) "The thermal pad should be soldered to the analog ground plane to avoid thermal issue. If possible, use thermal vias to connect to ground plane for ideal power dissipation."